# EAGLE library part 690368171272 (library Wuerth_Elektronik_eiCan_MiniModule_Connectors_v1.2)
WR-MM Female Angled Connector with Polarization and without Latch, 12 Pins
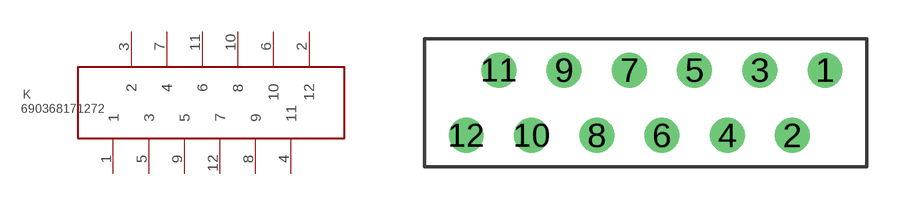
[diagram p36: symbol with the pads of 690368171272; footprint 690368171272]

Designator prefix K

## 690368171272  [690368171272]
1  1  pas
2  12  pas
3  2  pas
4  11  pas
5  3  pas
6  10  pas
7  4  pas
8  9  pas
9  5  pas
10  8  pas
11  6  pas
12  7  pas

## Footprint 690368171272 (pad centres in mm)
WR-MM Female Angled Connector with Polarization and without Latch, 12 Pins
drill 0.85 round: 1 6.985,1.27; 2 5.715,-1.27; 3 4.445,1.27; 4 3.175,-1.27; 5 1.905,1.27; 6 0.635,-1.27; 7 -0.635,1.27; 8 -1.905,-1.27; 9 -3.175,1.27; 10 -4.445,-1.27; 11 -5.715,1.27; 12 -6.985,-1.27